# EAGLE library part TC4468 (library lolomolo)
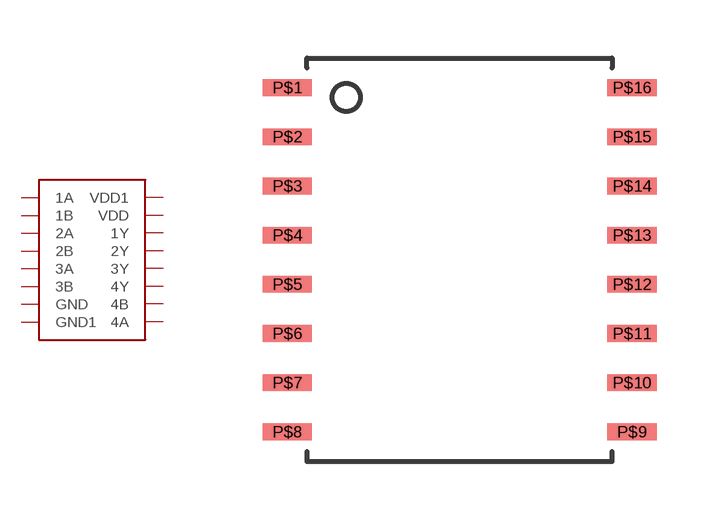
[diagram p14: symbol with the pads of 16-SOIC; footprint 16-SOIC]

Designator prefix IC

## TC4468  [16-SOIC]
P$1  1A
P$2  1B
P$3  2A
P$4  2B
P$5  3A
P$6  3B
P$7  GND
P$8  GND1
P$9  4A
P$10  4B
P$11  4Y
P$12  3Y
P$13  2Y
P$14  1Y
P$15  VDD
P$16  VDD1

## Footprint 16-SOIC (pad centres in mm)
smd 1.27 x 0.432: P$1 0,0; P$2 0,-1.27; P$3 0,-2.54; P$4 0,-3.81; P$5 0,-5.08; P$6 0,-6.35; P$7 0,-7.62; P$8 0,-8.89; P$9 8.89,-8.89; P$10 8.89,-7.62; P$11 8.89,-6.35; P$12 8.89,-5.08; P$13 8.89,-3.81; P$14 8.89,-2.54; P$15 8.89,-1.27; P$16 8.89,0